# Altium footprint library Crystal.PcbLib: 7 footprints
Each footprint in its own frame and in the unit in brackets; x right, y up, seen from the top. Pads: shape width x height; smd on the part's side, far side on the other; paste and mask are expansions set on the pad; w line width, h text height; cw(c..) or ccw(c..) is an arc to the next point about the centre after c.
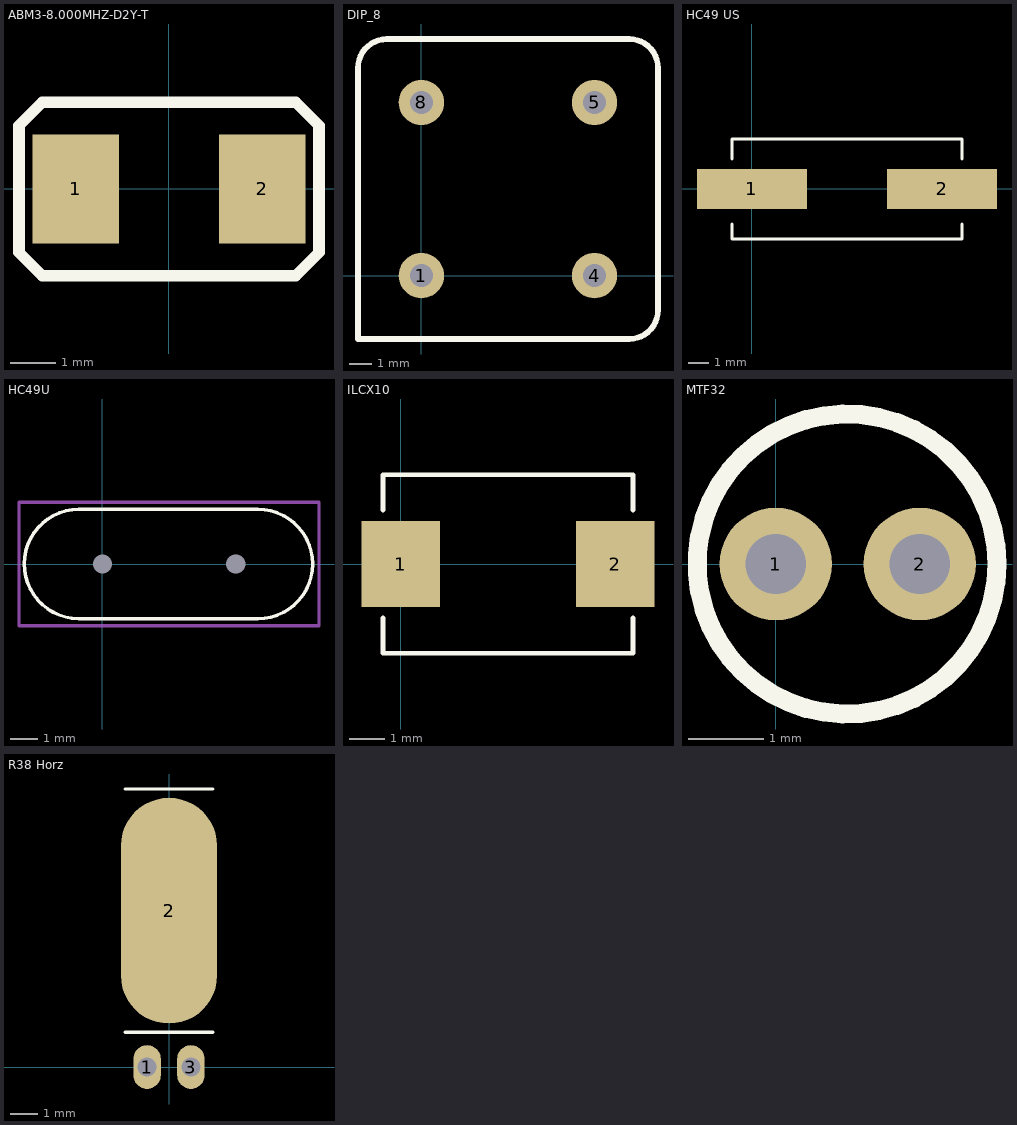
[diagram p0: the footprints below, top view; thin cyan lines are the x and y axes]

## ABM3-8.000MHZ-D2Y-T [mm]
height 0.9
pads (2):
  rect 1.9x2.4 smd: 1(-2.05,0) 2(2.05,0)
Top Overlay:
  lines w0.254: -3.302,-1.397 -2.794,-1.905 0,-1.905 2.794,-1.905 3.302,-1.397 3.302,1.397 2.794,1.905 0,1.905 -2.794,1.905 -3.302,1.397 -3.302,-1.397
3D body "User Library-ABM3.STEP": height 1.3, standoff 0, extent -2.6,-1.7 2.6,1.7

## DIP_8 [mm]
pads (4):
  round 2 hole 1: 1(0,0) 4(7.62,0) 5(7.62,7.62) 8(0,7.62)
Top Overlay:
  lines w0.254: -2.79,-2.79 -2.79,9.14 cw(c-1.52,9.14) -1.52,10.41 -1.52,10.414 9.144,10.414 cw(c9.144,9.144) 10.414,9.144 10.414,-1.52 cw(c9.144,-1.52) 9.144,-2.79 -2.79,-2.79
3D body "User Library-OSC_DIP-8.step": height 4.6, standoff -2, extent -2.54,-2.54 10.16,10.16

## HC49 US [mm]
pads (2):
  rect 5.5x2 smd: 1(0,0) 2(9.5,0)
Top Overlay:
  lines w0.127: -1,-1.75 -1,-2.5 10.5,-2.5 10.5,-1.75 ; -1,1.5 -1,2.5 10.5,2.5 10.5,1.5
3D body "HC49US.step": height 4.2, standoff 0, extent -1.4,-2.25 10.9,2.25

## HC49U [mm]
pads (2):
  rrect50% 0x0 / inner rrect50% 0x0 / far side rrect50% 1.8x1.8 hole 0.7 unplated: 1(0,0) 2(4.88,0)
Top Overlay:
  lines w0.127: -0.871,-2 cw(c-0.855,0) -0.861,2 ; -0.81,-2 5.69,-2 ccw(c5.69,0) 5.69,2 -0.81,2
Mechanical 15:
  lines w0.127: -3.048,-2.261 -3.048,2.261 7.925,2.261 7.925,-2.261 7.899,-2.261 -3.048,-2.261
3D body "HC49U.STEP": height 3.6, standoff -3, extent -3.05,-2.245 7.93,2.246

## ILCX10 [mm]
pads (2):
  rect 2.2x2.4 smd: 1(0,0) 2(6,0)
Top Overlay:
  lines w0.127: -0.5,-1.5 -0.5,-2.5 6.5,-2.5 6.5,-1.5 ; -0.5,1.5 -0.5,2.5 6.5,2.5 6.5,1.5
3D body "ILCX10.step": height 1.3, standoff 0, extent -0.5,-2.5 6.5,2.5

## MTF32 [mm]
pads (2):
  round 1.5 hole 0.8: 1(0,0) 2(1.92,0)
Top Overlay:
  circle w0.254: c0.95,0 r2
3D body "MTF32.STEP": height 8.27, standoff -3.2, extent -0.67,-1.5 2.53,1.7

## R38 Horz [mm]
pads (3):
  oval 1x1.6 hole 0.7: 1(-0.8,0) 3(0.8,0)
  oval 3.5x8.255 smd: 2(0,5.715)
Top Overlay:
  lines w0.127: -1.6,1.27 1.6,1.27 ; -1.6,10.16 1.6,10.16
3D body "DT-26-1.step": height 2.5, standoff -1.5, extent -1,-0.175 1,6.965